# Altium schematic symbol library Switchcraft_112A.SchLib: 1 symbol
Pins are listed as number, name and electrical type; pins without a type are passive.

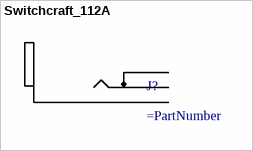
[diagram p0: symbol Switchcraft_112A]

## Switchcraft_112A
designator J?
pins: SLV, T, TS